# Altium schematic symbol library WIP252012S-R47MLDG.SchLib: 1 symbol
Pins are listed as number, name and electrical type; pins without a type are passive.

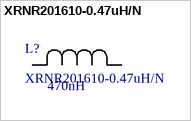
[diagram p0: symbol XRNR201610-0.47uH/N]

## XRNR201610-0.47uH/N
designator L?  Inductance: 470nH
2.35A 2.3A 470nH 59mΩ Magnetic Shielded Inductor ±30% SMD-2P,2x1.6mm Power Inductors ROHS; Manufacturer: Inpaq; Manufacturer Part Number: WIP252012S-1R5MLDG; Supplier: Digikey; Supplier Part Number: 3526-WIP252012S-1R5MLDGCT-ND; RoHS: No; Category: Fixed Inductors
footprint XRNR201610-0.47uH/N (Inductor)
pins: 1, 2